# Altium schematic symbol library MFR50SFTE52-10K.SchLib: 1 symbol
Pins are listed as number, name and electrical type; pins without a type are passive.

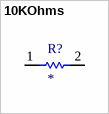
[diagram p0: symbol 10KOhms]

## 10KOhms
designator R?
10 kOhms ±1% 0.5W, 1/2W Through Hole Resistor Axial Metal Film; ID: MFR50SFTE52-10K; ComponentLink1Description: Compra; ComponentLink1URL: https://www.digikey.com/en/products/detail/yageo/MFR50SFTE52-10K/9151037
footprint RESAD1100W55L630D240B
pins: 1, 2